# Altium schematic symbol library CRCW0603270RFKEA.SchLib: 1 symbol
Pins are listed as number, name and electrical type; pins without a type are passive.

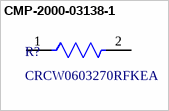
[diagram p0: symbol CMP-2000-03138-1]

## CMP-2000-03138-1
designator R?, comment CRCW0603270RFKEA
Manufacturer: Vishay Dale; Part Number: CRCW0603270RFKEA
footprint RESC1609X50X30NL10T20 (Chip Resistor, 2-Leads, Body 1.55x0.85mm, IPC Medium Density)
footprint RESC1609X50X30LL10T20 (Chip Resistor, 2-Leads, Body 1.55x0.85mm, IPC High Density)
footprint RESC1609X50X30ML10T20 (Chip Resistor, 2-Leads, Body 1.55x0.85mm, IPC Low Density)
footprint 0603Resistor
pins: 1, 2
1 alternate drawing of the same symbol